# EAGLE library part RESISTOR-QUAD (library pel_dipol_comp)
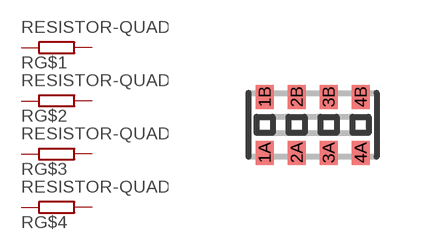
[diagram p0: symbol with the pads of 0603-QUAD-CC-RES; footprint 0603-QUAD-CC-RES]

Designator prefix R; gates G$1=RESISTOR G$2=RESISTOR G$3=RESISTOR G$4=RESISTOR

## RESISTOR-QUAD-0603  [0603-QUAD-CC-RES]
1A  G$1:1  pas
1B  G$1:2  pas
2A  G$2:1  pas
2B  G$2:2  pas
3A  G$3:1  pas
3B  G$3:2  pas
4A  G$4:1  pas
4B  G$4:2  pas

## Footprint 0603-QUAD-CC-RES (pad centres in mm)
Concave 4 resistor array
smd 0.45 x 0.6: 1A -1.2,-0.7; 1B -1.2,0.7; 2A -0.4,-0.7; 2B -0.4,0.7; 3A 0.4,-0.7; 3B 0.4,0.7; 4A 1.2,-0.7; 4B 1.2,0.7